# EAGLE library part TPS61241 (library texas)
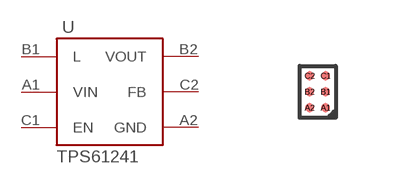
[diagram p120: symbol with the pads of DSBGA6; footprint DSBGA6]

Designator prefix -

## TPS61241  [DSBGA6]
A1  VIN
A2  GND
B1  L
B2  VOUT
C1  EN
C2  FB

## Footprint DSBGA6 (pad centres in mm)
smd 0.225 x 0.225: A1 0.2,-0.4; A2 -0.2,-0.4; B1 0.2,0; B2 -0.2,0; C1 0.2,0.4; C2 -0.2,0.4